# EAGLE library part JTAG_CONN_6PIN (library connectors)
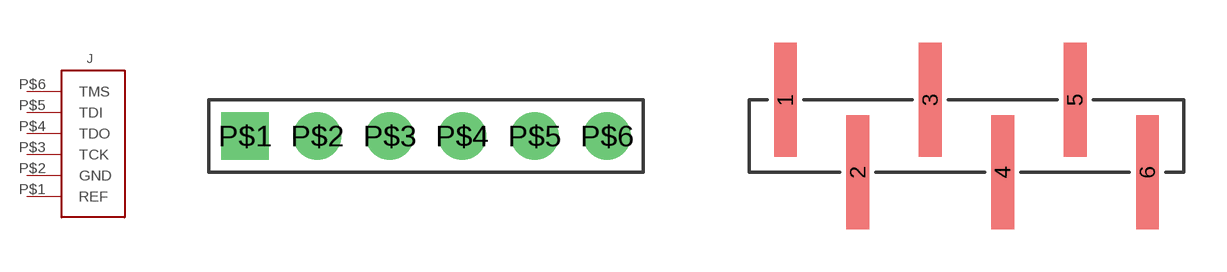
[diagram p6: symbol with the pads of 6X1_HEADER; footprints 6X1_HEADER, 6X1_JTAG]

Designator prefix J

## JTAG_CONN_6PINTHT  [6X1_HEADER]
P$1  REF
P$2  GND
P$3  TCK
P$4  TDO
P$5  TDI
P$6  TMS

## JTAG_CONN_6PINSMT  [6X1_JTAG]
1  REF
2  GND
3  TCK
4  TDO
5  TDI
6  TMS

## Footprint 6X1_HEADER (pad centres in mm)
drill 1 pad 1.676 square: P$1 -6.35,0
drill 1 pad 1.676: P$2 -3.81,0; P$3 -1.27,0; P$4 1.27,0; P$5 3.81,0; P$6 6.35,0

## Footprint 6X1_JTAG (pad centres in mm)
smd 0.8 x 4: 1 -6.35,1.27; 2 -3.81,-1.27; 3 -1.27,1.27; 4 1.27,-1.27; 5 3.81,1.27; 6 6.35,-1.27